# EAGLE library part MAX1496 (library maxim)
Maxim MAX1496 3.5-Digit, Single-Chip ADC with LED Driver Sigma-Delta ADC Arch Low-power, single-supply of 2.7V to 5.25V. Selectable input range of +-200mV or +-2V Multiplexed Common-Cathode LED Drivers, resister-programmable segment current. Available in SSOP-28 or PDIP Higher resolution (4.5 digit) available as MAX1447/MAX1498
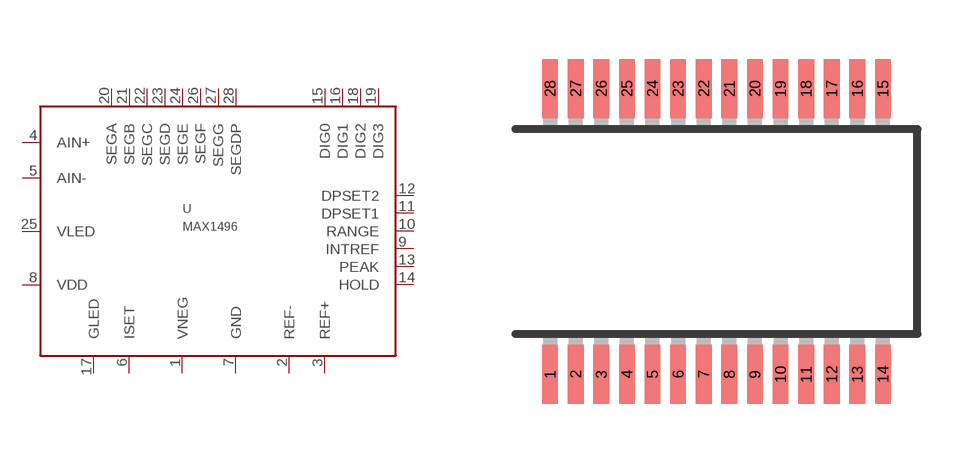
[diagram p4: symbol with the pads of SSOP28; footprint SSOP28]

Designator prefix U

## MAX1496EAI  [SSOP28]
1  VNEG
2  REF-
3  REF+
4  AIN+
5  AIN-
6  ISET
7  GND
8  VDD
9  INTREF
10  RANGE
11  DPSET1
12  DPSET2
13  PEAK
14  HOLD
15  DIG0
16  DIG1
17  GLED
18  DIG2
19  DIG3
20  SEGA
21  SEGB
22  SEGC
23  SEGD
24  SEGE
25  VLED
26  SEGF
27  SEGG
28  SEGDP

## Footprint SSOP28 (pad centres in mm)
Shrink Small Outline Package package type SS
smd 0.4 x 1.5: 1 -4.225,-3.625; 2 -3.575,-3.625; 3 -2.925,-3.625; 4 -2.275,-3.625; 5 -1.625,-3.625; 6 -0.975,-3.625; 7 -0.325,-3.625; 8 0.325,-3.625; 9 0.975,-3.625; 10 1.625,-3.625; 11 2.275,-3.625; 12 2.925,-3.625; 13 3.575,-3.625; 14 4.225,-3.625; 15 4.225,3.625; 16 3.575,3.625; 17 2.925,3.625; 18 2.275,3.625; 19 1.625,3.625; 20 0.975,3.625; 21 0.325,3.625; 22 -0.325,3.625; 23 -0.975,3.625; 24 -1.625,3.625; 25 -2.275,3.625; 26 -2.925,3.625; 27 -3.575,3.625; 28 -4.225,3.625